# EAGLE library part TX-BASEDRIVE-7P (library _mtvl.transformers)
Base drive transformer 7 pin
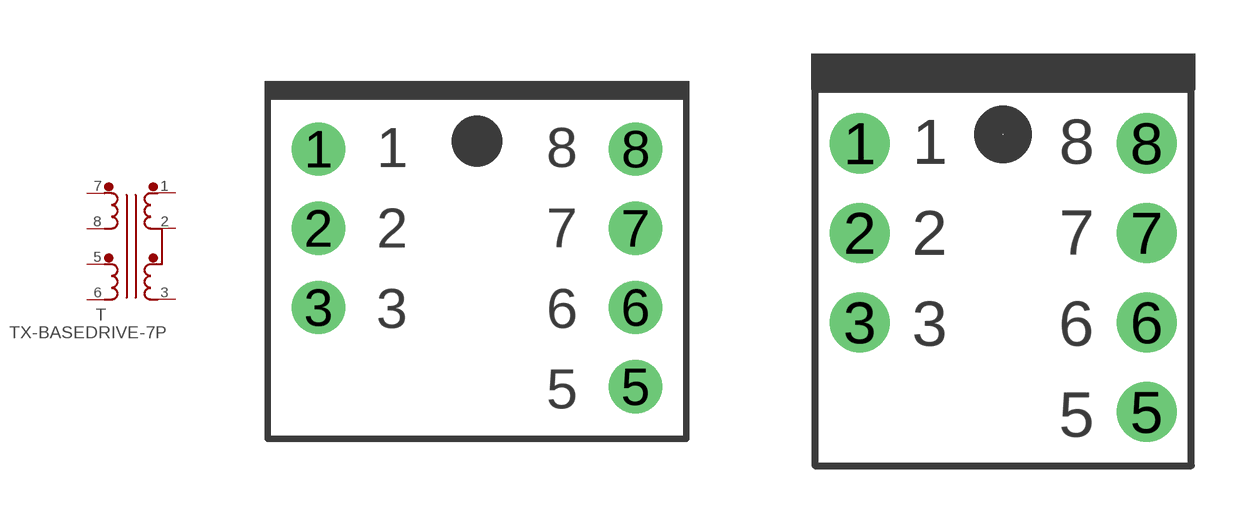
[diagram p0: symbol with the pads of EE10H-(3+4)P; footprints EE10H-(3+4)P, EE10V-(3+4)P]

Designator prefix T

## TX-BASEDRIVE-7P-EE10H  [EE10H-(3+4)P]
1  1  pas
2  2  pas
3  3  pas
5  5  pas
6  6  pas
7  7  pas
8  8  pas

## TX-BASEDRIVE-7P-EE10V  [EE10V-(3+4)P]
Pads as for EE10H-(3+4)P

## Footprint EE10H-(3+4)P (pad centres in mm)
EE10H-(3+4)P
drill 0.8 pad 1.676: 1 -5,3.75; 2 -5,1.25; 3 -5,-1.25; 5 5,-3.75; 6 5,-1.25; 7 5,1.25; 8 5,3.75

## Footprint EE10V-(3+4)P (pad centres in mm)
EE10V-(3+4)P
drill 0.8 pad 1.676: 1 -4,3.75; 2 -4,1.25; 3 -4,-1.25; 5 4,-3.75; 6 4,-1.25; 7 4,1.25; 8 4,3.75